# EAGLE library part ATX-POWER_CON_5566-20 (library ATX_POWER-con-molex)
Mini FIT connector 20 pol ATX PC-Motherboard Power connector Source: http://www.molex.com
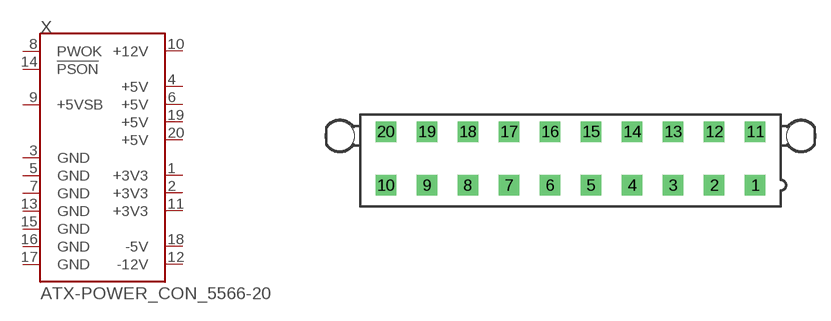
[diagram p0: symbol with the pads of 5566-20; footprint 5566-20]

Designator prefix X

## ATX-POWER_CON_5566-20  [5566-20]
1  +3V3  pas
2  +3V3  pas
3  GND  pas
4  +5V  pas
5  GND  pas
6  +5V  pas
7  GND  pas
8  PWOK  pas
9  +5VSB  pas
10  +12V  pas
11  +3V3  pas
12  -12V  pas
13  GND  pas
14  !PSON  pas
15  GND  pas
16  GND  pas
17  GND  pas
18  -5V  pas
19  +5V  pas
20  +5V  pas

## Footprint 5566-20 (pad centres in mm)
Mini-Fit Jr.™ Vertical Header, 4.20mm Pitch, Dual Row, 20 Circuits, without Snap-in Plastic Peg PCB Lock, Tin, Natural Datasheet <http://www.molex.com/pdm_docs/sd/039281203_sd.pdf>
drill 1.4 square: 1 18.9,-2.75; 2 14.7,-2.75; 3 10.5,-2.75; 4 6.3,-2.75; 5 2.1,-2.75; 6 -2.1,-2.75; 7 -6.3,-2.75; 8 -10.5,-2.75; 9 -14.7,-2.75; 10 -18.9,-2.75; 11 18.9,2.75; 12 14.7,2.75; 13 10.5,2.75; 14 6.3,2.75; 15 2.1,2.75; 16 -2.1,2.75; 17 -6.3,2.75; 18 -10.5,2.75; 19 -14.7,2.75; 20 -18.9,2.75
hole 3 at 23.6,2.29
hole 3 at -23.6,2.29